# Altium schematic symbol library SCH - POWER - SWITCHMODE - VISHAY SIC47X.SchLib: 1 symbol
Pins are listed as number, name and electrical type; pins without a type are passive.

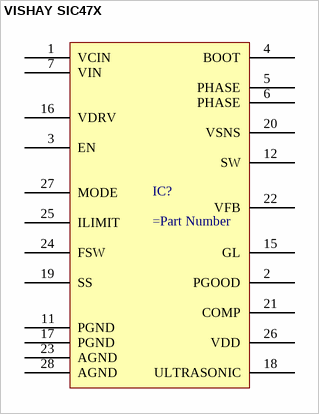
[diagram p0: symbol VISHAY SIC47X]

## VISHAY SIC47X
designator IC?
pins: 1 VCIN, 2 PGOOD, 3 EN, 4 BOOT, 5 PHASE, 6 PHASE, 7 VIN, 11 PGND, 12 SW, 15 GL, 16 VDRV, 17 PGND, 18 ULTRASONIC, 19 SS, 20 VSNS, 21 COMP, 22 VFB, 23 AGND, 24 FSW, 25 ILIMIT, 26 VDD, 27 MODE, 28 AGND